# Altium footprint library SG__PCB_Chip.PcbLib: 121 footprints (part 7 of 8)
Each footprint in its own frame and in the unit in brackets; x right, y up, seen from the top. Pads: shape width x height; smd on the part's side, far side on the other; paste and mask are expansions set on the pad; w line width, h text height; cw(c..) or ccw(c..) is an arc to the next point about the centre after c.
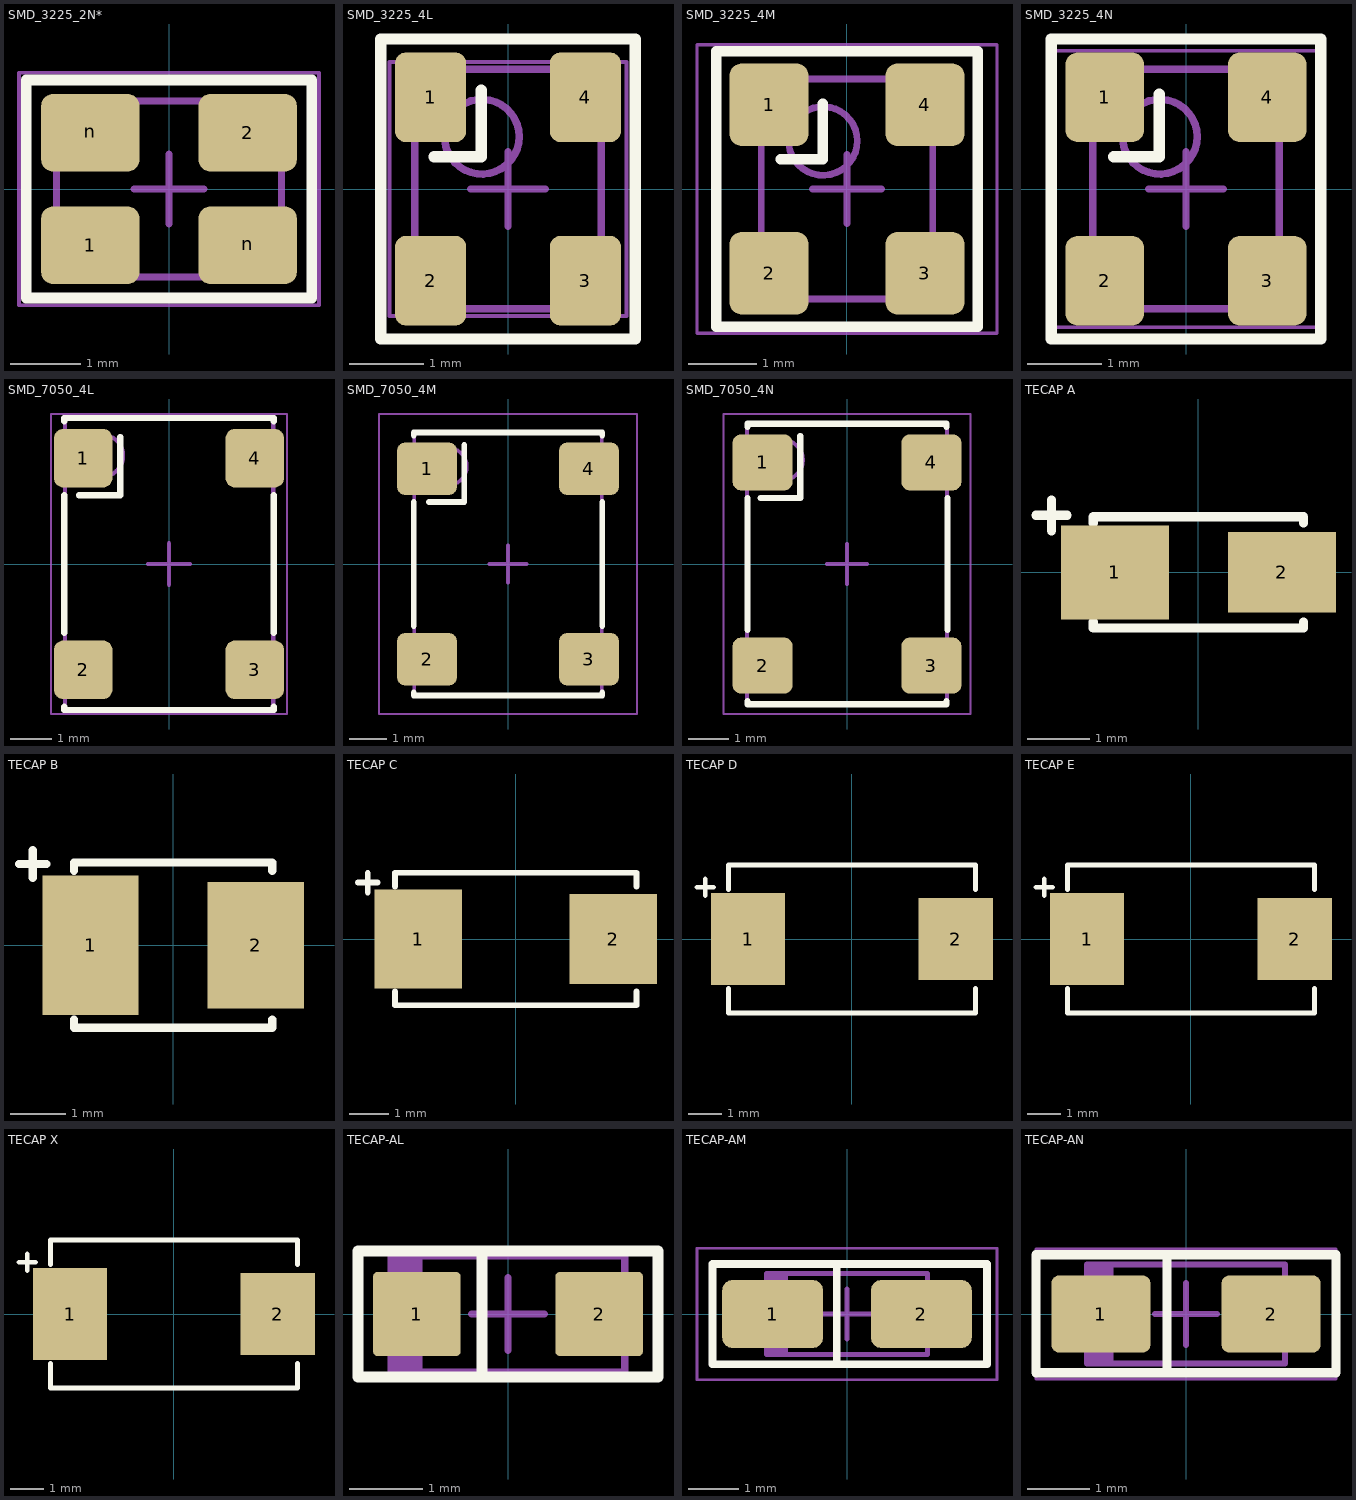
[diagram p6: the footprints below, top view; thin cyan lines are the x and y axes]

## SMD_3225_2N* [mm] "DFN, 2-Leads, Body 2,50x3,20mm, Pitch 1,90mm, IPC Medium Density"
height 0.85
pads (4):
  rrect30% 1.4x1.1 smd: 1(-1.118,-0.8) 2(1.118,0.8) n(-1.118,0.8) n(1.118,-0.8)
Top Overlay:
  lines w0.152: -1.854,-1.549 2.032,-1.549 2.032,1.549 1.6,1.549 -2.032,1.549 -2.032,-1.549 -1.676,-1.549
Assembly Top:
  lines w0.1: -1.6,-1.25 1.6,-1.25 1.6,1.25 -1.6,1.25 -1.6,-1.25
Courtyard Top:
  lines w0.05: -2.134,-1.651 2.134,-1.651 2.134,1.651 -2.134,1.651 -2.134,-1.651
  lines w0.1: -0.5,0 0.5,0 ; 0,-0.5 0,0.5
3D body: height 0.85, standoff 0.05, extent -1.6,-1.25 1.6,1.25

## SMD_3225_4L [mm] "SON, 4-Leads, Body 3,20x2,50mm, Pitch 2,20mm, IPC High Density"
height 1
pads (4):
  rrect30% 0.95x1.2 smd: 1(-1.035,1.227) 2(-1.035,-1.227) 3(1.035,-1.227) 4(1.035,1.227)
Top Overlay:
  lines w0.152: -0.991,0.432 -0.356,0.432 -0.356,1.321 ; 1.168,-2.007 1.702,-2.007 1.702,1.702 1.702,2.007 -1.702,2.007 -1.702,-1.626 -1.702,-2.007 1.346,-2.007
Assembly Top:
  circle w0.1: c-0.35,0.7 r0.5
  lines w0.1: -1.25,-1.6 -1.25,1.6 1.25,1.6 1.25,-1.6 -1.25,-1.6
Courtyard Top:
  lines w0.05: -1.585,-1.7 -1.585,1.7 1.585,1.7 1.585,-1.7 -1.585,-1.7
  lines w0.1: -0.5,0 0.5,0 ; 0,-0.5 0,0.5
3D body "SON220P250X100-4L.step": height 1, standoff 0, extent -1.25,-1.6 1.25,1.6

## SMD_3225_4M [mm] "SON, 4-Leads, Body 3,20x2,50mm, Pitch 2,20mm, IPC Low Density"
height 1
pads (4):
  rrect30% 1.15x1.2 smd: 1(-1.135,1.227) 2(-1.135,-1.227) 3(1.135,-1.227) 4(1.135,1.227)
Top Overlay:
  lines w0.152: -1.473,-2.007 1.905,-2.007 1.905,-0.533 1.905,2.007 0.762,2.007 -1.905,2.007 -1.905,-1.524 -1.905,-2.007 -1.397,-2.007 ; -0.965,0.432 -0.356,0.432 -0.356,1.245
Assembly Top:
  circle w0.1: c-0.35,0.7 r0.5
  lines w0.1: -1.25,-1.6 -1.25,1.6 1.25,1.6 1.25,-1.6 -1.25,-1.6
Courtyard Top:
  lines w0.05: -2.185,-2.1 -2.185,2.1 2.185,2.1 2.185,-2.1 -2.185,-2.1
  lines w0.1: -0.5,0 0.5,0 ; 0,-0.5 0,0.5
3D body "SON220P250X100-4M.step": height 1, standoff 0, extent -1.25,-1.6 1.25,1.6

## SMD_3225_4N [mm] "SON, 4-Leads, Body 3,20x2,50mm, Pitch 2,20mm, IPC Medium Density"
height 1
pads (4):
  rrect30% 1.05x1.2 smd: 1(-1.085,1.227) 2(-1.085,-1.227) 3(1.085,-1.227) 4(1.085,1.227)
Top Overlay:
  lines w0.152: -1.803,-1.778 -1.803,-2.007 ; -0.965,0.432 -0.356,0.432 -0.356,1.27 ; 1.092,-2.007 1.803,-2.007 1.803,1.041 1.803,2.007 -1.6,2.007 -1.803,2.007 -1.803,-0.406 -1.803,-2.007 ; 1.219,-2.007 -1.803,-2.007
Assembly Top:
  circle w0.1: c-0.35,0.7 r0.5
  lines w0.1: -1.25,-1.6 -1.25,1.6 1.25,1.6 1.25,-1.6 -1.25,-1.6
Courtyard Top:
  lines w0.05: -1.835,-1.85 -1.835,1.85 1.835,1.85 1.835,-1.85 -1.835,-1.85
  lines w0.1: -0.5,0 0.5,0 ; 0,-0.5 0,0.5
3D body "SON220P250X100-4N.step": height 1, standoff 0, extent -1.25,-1.6 1.25,1.6

## SMD_7050_4L [mm] "SON, 4-Leads, Body 7,00x5,00mm, Pitch 5,08mm, IPC High Density"
height 1.3
pads (4):
  rrect30% 1.4x1.4 smd: 1(-2.06,2.54) 2(-2.06,-2.54) 3(2.06,-2.54) 4(2.06,2.54)
Top Overlay:
  lines w0.152: -2.515,-3.429 -2.515,-3.505 2.515,-3.505 2.515,-3.429 ; -2.515,-1.651 -2.515,1.651 ; -2.515,3.429 -2.515,3.505 2.515,3.505 2.515,3.429 ; -2.159,1.651 -1.168,1.651 -1.168,3.048 ; 2.515,-1.651 2.515,1.651
Assembly Top:
  circle w0.1: c-1.6,2.6 r0.5
  lines w0.1: -2.5,-3.5 -2.5,3.5 2.5,3.5 2.5,-3.5 -2.5,-3.5
Courtyard Top:
  lines w0.05: -2.835,-3.6 -2.835,3.6 2.835,3.6 2.835,-3.6 -2.835,-3.6
  lines w0.1: -0.5,0 0.5,0 ; 0,-0.5 0,0.5
3D body "SON508P500X130-4L.step": height 1.3, standoff 0, extent -2.5,-3.5 2.5,3.5

## SMD_7050_4M [mm] "SON, 4-Leads, Body 7,00x5,00mm, Pitch 5,08mm, IPC Low Density"
height 1.3
pads (4):
  rrect30% 1.6x1.4 smd: 1(-2.16,2.54) 2(-2.16,-2.54) 3(2.16,-2.54) 4(2.16,2.54)
Top Overlay:
  lines w0.152: -2.515,-3.429 -2.515,-3.505 2.515,-3.505 2.515,-3.429 ; -2.515,-1.651 -2.515,1.651 ; -2.515,3.429 -2.515,3.505 2.515,3.505 2.515,3.429 ; -2.108,1.651 -1.168,1.651 -1.168,3.175 ; 2.515,-1.651 2.515,1.651
Assembly Top:
  circle w0.1: c-1.6,2.6 r0.5
  lines w0.1: -2.5,-3.5 2.5,-3.5 2.5,3.5 -2.5,3.5 -2.5,-3.5
Courtyard Top:
  lines w0.05: -3.435,-4 3.435,-4 3.435,4 -3.435,4 -3.435,-4
  lines w0.1: -0.5,0 0.5,0 ; 0,-0.5 0,0.5
3D body "SON508P500X130-4M.step": height 1.3, standoff 0, extent -2.5,-3.5 2.5,3.5

## SMD_7050_4N [mm] "SON, 4-Leads, Body 7,00x5,00mm, Pitch 5,08mm, IPC Medium Density"
height 1.3
pads (4):
  rrect30% 1.5x1.4 smd: 1(-2.11,2.54) 2(-2.11,-2.54) 3(2.11,-2.54) 4(2.11,2.54)
Top Overlay:
  lines w0.152: -2.489,-3.429 -2.489,-3.505 2.261,-3.505 2.489,-3.505 2.489,-3.429 ; -2.489,-1.651 -2.489,1.651 ; -2.489,3.429 -2.489,3.505 2.489,3.505 2.489,3.429 ; -2.159,1.651 -1.168,1.651 -1.168,3.2 ; 2.515,-1.651 2.515,1.651
Assembly Top:
  circle w0.1: c-1.6,2.6 r0.5
  lines w0.1: -2.5,-3.5 2.5,-3.5 2.5,3.5 -2.5,3.5 -2.5,-3.5
Courtyard Top:
  lines w0.05: -3.085,-3.75 3.085,-3.75 3.085,3.75 -3.085,3.75 -3.085,-3.75
  lines w0.1: -0.5,0 0.5,0 ; 0,-0.5 0,0.5
3D body "SON508P500X130-4N.step": height 1.3, standoff 0, extent -2.5,-3.5 2.5,3.5

## TECAP A [mm]
pads (2):
  rect 1.75x1.524 smd mask+0.05: 1(-1.35,0)
  rect 1.75x1.3 smd mask+0.05: 2(1.35,0)
Top Overlay:
  lines w0.15: -2.625,0.923 -2.125,0.923 ; -2.375,0.673 -2.375,1.173 ; -1.7,-0.8 -1.7,-0.9 1.7,-0.9 1.7,-0.8 ; -1.7,0.8 -1.7,0.9 1.7,0.9 1.7,0.8
3D body "A Case SMT Capacitor.step": height 1.67, standoff 0.07, extent -1.667,-0.889 1.507,0.711

## TECAP B [mm]
pads (2):
  rect 1.75x2.54 smd mask+0.05: 1(-1.5,0)
  rect 1.75x2.3 smd mask+0.05: 2(1.5,0)
Top Overlay:
  lines w0.15: -2.799,1.475 -2.299,1.475 ; -2.549,1.225 -2.549,1.725 ; -1.8,-1.35 -1.8,-1.5 1.8,-1.5 1.8,-1.35 ; -1.8,1.35 -1.8,1.5 1.8,1.5 1.8,1.35
3D body "TECAP B.step": height 1.9, standoff 0, extent -1.726,-1.4 1.774,1.4

## TECAP C [mm]
pads (2):
  rect 2.25x2.54 smd mask+0.05: 1(-2.5,0)
  rect 2.25x2.3 smd mask+0.05: 2(2.5,0)
Top Overlay:
  lines w0.15: -4.051,1.448 -3.551,1.448 ; -3.801,1.198 -3.801,1.698 ; -3.1,-1.35 -3.1,-1.7 3.1,-1.7 3.1,-1.35 ; -3.1,1.35 -3.1,1.7 3.1,1.7 3.1,1.35
3D body "TECAP C.step": height 2.5, standoff 0, extent -3.011,-1.6 2.989,1.6

## TECAP D [mm]
pads (2):
  rect 2.25x2.794 smd mask+0.05: 1(-3.15,0)
  rect 2.25x2.5 smd mask+0.05: 2(3.15,0)
Top Overlay:
  lines w0.15: -4.702,1.571 -4.202,1.571 ; -4.452,1.321 -4.452,1.821 ; -3.75,-1.5 -3.75,-2.25 3.75,-2.25 3.75,-1.5 ; -3.75,1.5 -3.75,2.25 3.75,2.25 3.75,1.5
3D body "TECAP D.step": height 2.8, standoff 0, extent -3.625,-2.15 3.675,2.15

## TECAP E [mm]
pads (2):
  rect 2.25x2.794 smd mask+0.05: 1(-3.15,0)
  rect 2.25x2.5 smd mask+0.05: 2(3.15,0)
Top Overlay:
  lines w0.15: -4.702,1.571 -4.202,1.571 ; -4.452,1.321 -4.452,1.821 ; -3.75,-1.5 -3.75,-2.25 3.75,-2.25 3.75,-1.5 ; -3.75,1.5 -3.75,2.25 3.75,2.25 3.75,1.5
3D body "TAJE107M016RNJ--3DModel-STEP-269445.STEP": height 4.3, standoff 0, extent -3.65,-2.15 3.65,2.15

## TECAP X [mm]
pads (2):
  rect 2.25x2.794 smd mask+0.05: 1(-3.15,0)
  rect 2.25x2.5 smd mask+0.05: 2(3.15,0)
Top Overlay:
  lines w0.15: -4.702,1.571 -4.202,1.571 ; -4.452,1.321 -4.452,1.821 ; -3.75,-1.5 -3.75,-2.25 3.75,-2.25 3.75,-1.5 ; -3.75,1.5 -3.75,2.25 3.75,2.25 3.75,1.5
3D body "T491X107K025AT.STEP": height 4.3, standoff 0, extent -3.65,-2.15 3.65,2.15

## TECAP-AL [mm] "Molded Capacitor, 2-Leads, Body 3,20x1,60mm, IPC High Density"
height 1.6
pads (2):
  rrect10% 1.2x1.15 smd: 1(-1.25,0) 2(1.25,0)
Top Overlay:
  lines w0.152: -1.143,-0.864 2.057,-0.864 2.057,-0.457 2.057,0.864 0.356,0.864 -2.057,0.864 -2.057,-0.711 -2.057,-0.864 -0.991,-0.864 ; -0.559,0.864 -0.356,0.864 -0.356,-0.864
Assembly Top:
  rectangle: -1.6,-0.8 -1.17,0.8
  lines w0.1: -1.6,-0.8 -1.6,0.8 1.6,0.8 1.6,-0.8 -1.6,-0.8
Courtyard Top:
  lines w0.05: -2.057,-0.9 -2.057,0.9 2.057,0.9 2.057,-0.9 -2.057,-0.9
  lines w0.1: -0.5,0 0.5,0 ; 0,-0.5 0,0.5
3D body: height 1.61, standoff 1, extent -1.5,-0.7 -0.9,0.7
3D body "CAPMP3216X16N.step": height 1.6, standoff 0, extent -1.82,-0.8 1.82,0.8

## TECAP-AM [mm] "Molded Capacitor, 2-Leads, Body 3,20x1,60mm, IPC Low Density"
height 1.6
pads (2):
  rrect30% 2x1.35 smd: 1(-1.475,0) 2(1.475,0)
Top Overlay:
  lines w0.152: -0.203,-0.995 -0.203,0.991 ; -2.667,-0.995 -2.667,-0.051 -2.667,0.991 0.686,0.991 2.776,0.991 2.776,0.084 2.776,-0.995 -1.468,-0.995 -2.667,-0.995
Assembly Top:
  rectangle: -1.6,-0.8 -1.17,0.8
  lines w0.1: -1.6,-0.8 1.6,-0.8 1.6,0.8 -1.6,0.8 -1.6,-0.8
Courtyard Top:
  lines w0.05: -2.975,-1.3 2.975,-1.3 2.975,1.3 -2.975,1.3 -2.975,-1.3
  lines w0.1: -0.5,0 0.5,0 ; 0,-0.5 0,0.5
3D body "CAPMP3216X16N.step": height 1.6, standoff 0, extent -1.82,-0.8 1.82,0.8
3D body: height 1.61, standoff 1, extent -1.5,-0.7 -0.9,0.7

## TECAP-AN [mm] "Molded Capacitor, 2-Leads, Body 3,20x1,60mm, IPC Medium Density"
height 1.6
pads (2):
  rrect20% 1.6x1.25 smd: 1(-1.375,0) 2(1.375,0)
Top Overlay:
  lines w0.152: -0.307,-0.889 -0.307,0.955 ; -0.307,0.955 0.006,0.955 2.425,0.955 2.425,-0.948 1.46,-0.948 1.358,-0.948 -2.425,-0.948 -2.425,-0.075 -2.425,0.955 -0.307,0.955
Assembly Top:
  rectangle: -1.6,-0.8 -1.17,0.8
  lines w0.1: -1.6,-0.8 1.6,-0.8 1.6,0.8 -1.6,0.8 -1.6,-0.8
Courtyard Top:
  lines w0.05: -2.425,-1.05 2.425,-1.05 2.425,1.05 -2.425,1.05 -2.425,-1.05
  lines w0.1: -0.5,0 0.5,0 ; 0,-0.5 0,0.5
3D body: height 1.61, standoff 1, extent -1.5,-0.7 -0.9,0.7
3D body "CAPMP3216X16N.step": height 1.6, standoff 0, extent -1.82,-0.8 1.82,0.8